# Altium footprint library con-lsta.PCBLIB: 47 footprints (part 1 of 3)
Each footprint in its own frame and in the unit in brackets; x right, y up, seen from the top. Pads: shape width x height; smd on the part's side, far side on the other; paste and mask are expansions set on the pad; w line width, h text height; cw(c..) or ccw(c..) is an arc to the next point about the centre after c.
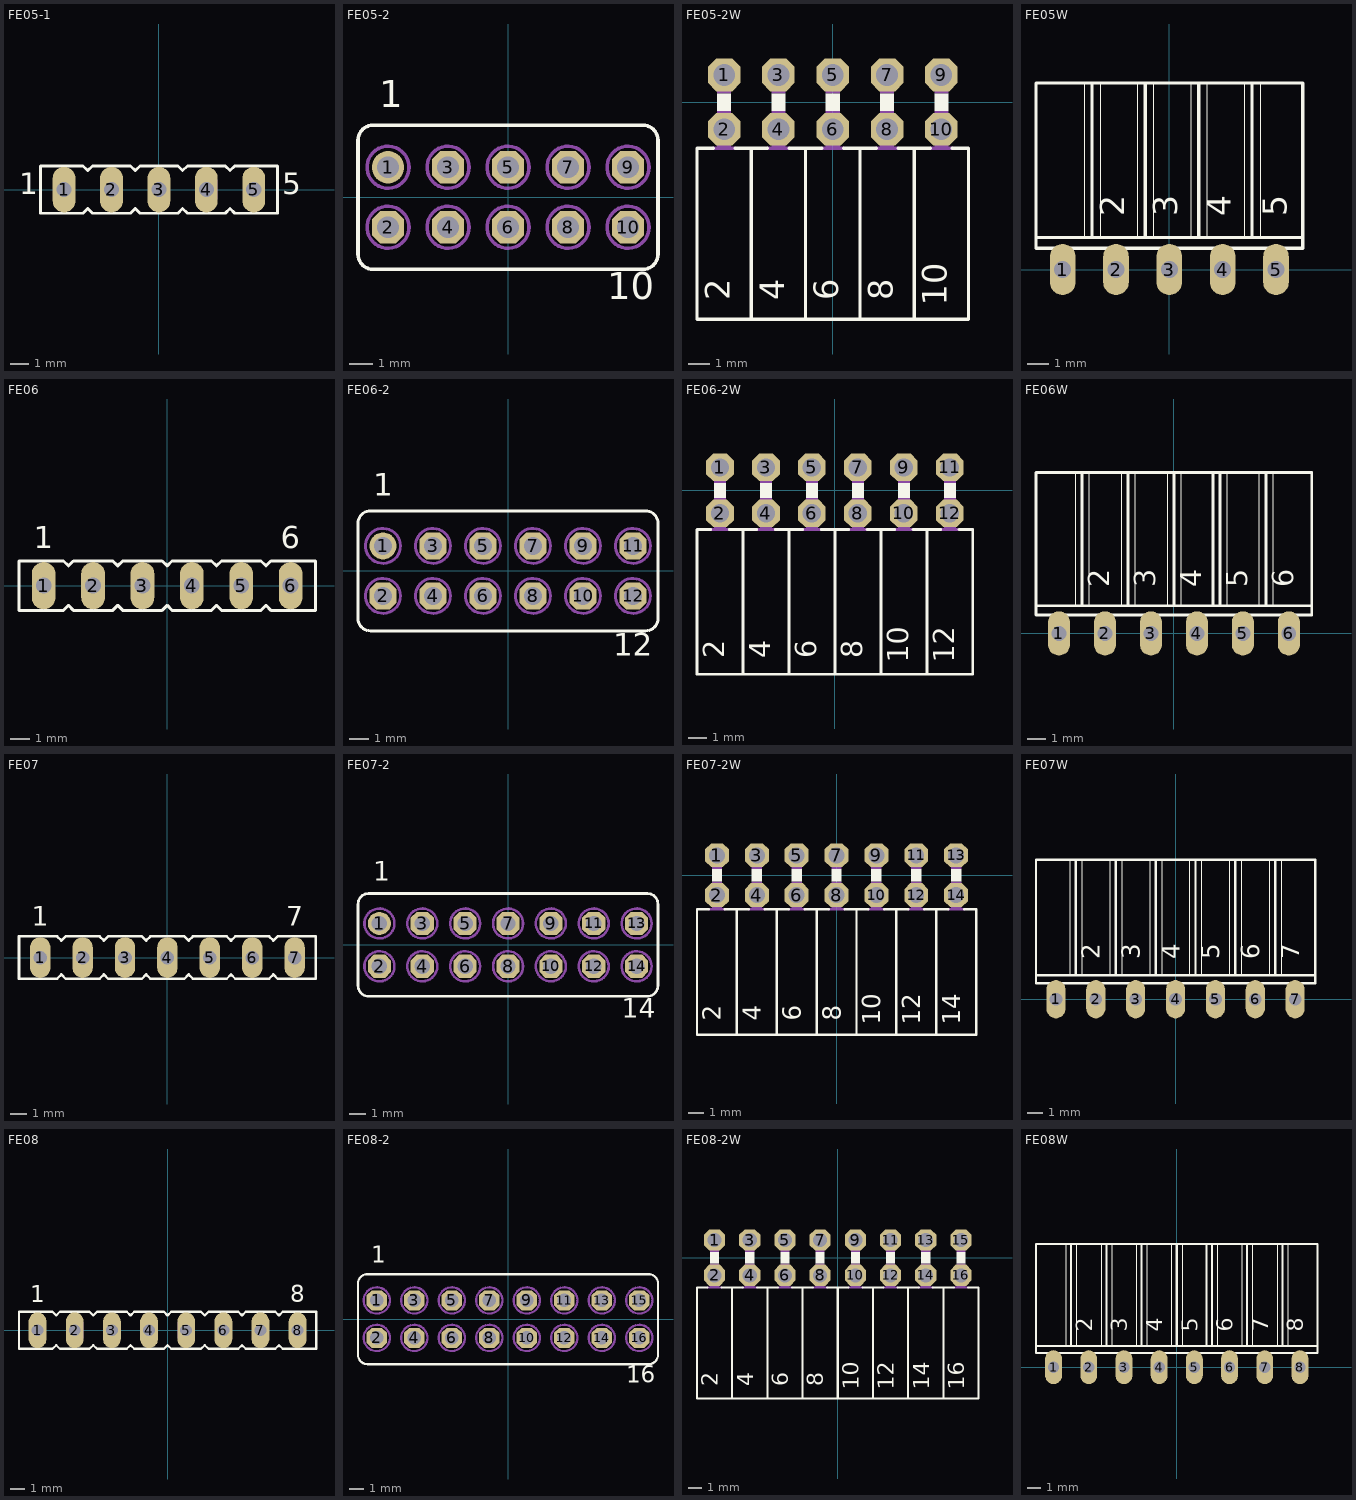
[diagram p0: the footprints below, top view; thin cyan lines are the x and y axes]

## FE05-1 [mil]
pads (5):
  oval 48x96 hole 32: 1(-200,0) 2(-100,0) 3(0,0) 4(100,0) 5(200,0)
Top Overlay:
  lines w6: -250,-50 -250,50 -160,50 -150,40 -140,50 -60,50 -50,40 -40,50 40,50 50,40 60,50 140,50 150,40 160,50 250,50 250,-50 160,-50 150,-40 140,-50 60,-50 50,-40 40,-50 -40,-50 -50,-40 -60,-50 -140,-50 -150,-40 -160,-50 -250,-50
  text "1" at -295,-25 h77.5
  text "5" at 260,-25 h77.5
Mechanical 16:
  rectangle: -205,10 -195,30
  rectangle: -205,-30 -195,-10
  rectangle: -105,10 -95,30
  rectangle: -105,-30 -95,-10
  rectangle: -5,10 5,30
  rectangle: -5,-30 5,-10
  rectangle: 95,10 105,30
  rectangle: 95,-30 105,-10
  rectangle: 195,10 205,30
  rectangle: 195,-30 205,-10
  lines w6: -220,-20 -220,20 -210,20 -210,30 -190,30 -190,20 -180,20 -180,-20 -190,-20 -190,-30 -210,-30 -210,-20 -220,-20 ; -120,-20 -120,20 -110,20 -110,30 -90,30 -90,20 -80,20 -80,-20 -90,-20 -90,-30 -110,-30 -110,-20 -120,-20 ; -20,-20 -20,20 -10,20 -10,30 10,30 10,20 20,20 20,-20 10,-20 10,-30 -10,-30 -10,-20 -20,-20 ; 80,-20 80,20 90,20 90,30 110,30 110,20 120,20 120,-20 110,-20 110,-30 90,-30 90,-20 80,-20 ; 180,-20 180,20 190,20 190,30 210,30 210,20 220,20 220,-20 210,-20 210,-30 190,-30 190,-20 180,-20

## FE05-2 [mil]
pads (10):
  round 54 hole 36: 1(-200,50)
  oct 54x54 hole 36: 2(-200,-50) 3(-100,50) 4(-100,-50) 5(0,50) 6(0,-50) 7(100,50) 8(100,-50) 9(200,50) 10(200,-50)
Top Overlay:
  lines w6: -250,-95 -250,95 cw(c-225,95) -225,120 225,120 cw(c225,95) 250,95 250,-95 cw(c225,-95) 225,-120 -225,-120 cw(c-225,-95) -250,-95
  text "1" at -215,135 h77.5
  text "10" at 165,-185 h77.5
Mechanical 16:
  circle w16: c-200,-50 r5
  circle w16: c-200,50 r5
  circle w16: c-100,-50 r5
  circle w16: c-100,50 r5
  circle w16: c0,-50 r5
  circle w16: c0,50 r5
  circle w16: c100,-50 r5
  circle w16: c100,50 r5
  circle w16: c200,-50 r5
  circle w16: c200,50 r5
  circle w6: c-200,-50 r35
  circle w6: c-200,50 r35
  circle w6: c-100,50 r35
  circle w6: c0,50 r35
  circle w6: c100,50 r35
  circle w6: c200,50 r35
  circle w6: c-100,-50 r35
  circle w6: c0,-50 r35
  circle w6: c100,-50 r35
  circle w6: c200,-50 r35

## FE05-2W [mil]
pads (10):
  oct 60x60 hole 40: 1(-200,50) 2(-200,-50) 3(-100,50) 4(-100,-50) 5(0,50) 6(0,-50) 7(100,50) 8(100,-50) 9(200,50) 10(200,-50)
Top Overlay:
  rectangle: 187,-16 213,16
  rectangle: 87,-16 113,16
  rectangle: -13,-16 13,16
  rectangle: -113,-16 -87,16
  rectangle: -213,-16 -187,16
  lines w6: -220,-85 -250,-85 -250,-400 -150,-400 ; -180,-85 -150,-85 ; -120,-85 -150,-85 ; -80,-85 -50,-85 ; -20,-85 -50,-85 ; 20,-85 50,-85 ; 80,-85 50,-85 ; 120,-85 150,-85 ; 180,-85 150,-85 ; 220,-85 250,-85 250,-400 150,-400 ; -150,-400 -150,-85 ; -150,-400 -50,-400 ; -50,-400 -50,-85 ; -50,-400 50,-400 ; 50,-400 50,-85 ; 50,-400 150,-400 ; 150,-400 150,-85
  text "10" at 225,-375 h77.5
  text "8" at 125,-365 h77.5
  text "6" at 25,-365 h77.5
  text "4" at -75,-365 h77.5
  text "2" at -175,-365 h77.5
Mechanical 16:
  rectangle: 187,-84 213,-16
  rectangle: 87,-84 113,-16
  rectangle: 187,16 213,62
  rectangle: 87,16 113,62
  rectangle: -13,-84 13,-16
  rectangle: -113,-84 -87,-16
  rectangle: -213,-84 -187,-16
  rectangle: -13,16 13,62
  rectangle: -113,16 -87,62
  rectangle: -213,16 -187,62
  lines w6: -220,-85 -180,-85 ; -120,-85 -80,-85 ; -20,-85 20,-85 ; 80,-85 120,-85 ; 180,-85 220,-85

## FE05W [mil]
pads (5):
  oval 48x96 hole 32: 1(-200,0) 2(-100,0) 3(0,0) 4(100,0) 5(200,0)
Top Overlay:
  lines w2: -160,60 -160,350 ; -130,60 -130,350 ; -60,60 -60,350 ; -30,60 -30,350 ; 40,60 40,350 ; 70,60 70,350 ; 140,60 140,350 ; 170,60 170,350
  lines w6: -250,60 -250,40 250,40 250,60 ; -250,60 -250,350 -160,350 -145,350 ; -250,60 -160,60 -145,60 ; -145,60 -130,60 -60,60 -45,60 ; -145,60 -145,350 ; -145,350 -130,350 -60,350 -45,350 ; -45,60 -30,60 40,60 55,60 ; -45,60 -45,350 ; -45,350 -30,350 40,350 55,350 ; 55,60 70,60 140,60 155,60 ; 55,60 55,350 ; 55,350 70,350 140,350 155,350 ; 155,60 170,60 250,60 ; 155,60 155,350 ; 155,350 170,350 250,350 250,60
  text "2" at -70,100 h77.5
  text "5" at 235,100 h77.5
  text "3" at 30,100 h77.5
  text "4" at 130,100 h77.5
Mechanical 16:
  rectangle: -210,0 -190,40
  rectangle: -110,0 -90,40
  rectangle: -10,0 10,40
  rectangle: 90,0 110,40
  rectangle: 190,0 210,40

## FE06 [mil]
pads (6):
  oval 48x96 hole 32: 1(-250,0) 2(-150,0) 3(-50,0) 4(50,0) 5(150,0) 6(250,0)
Top Overlay:
  lines w6: -300,-50 -300,50 -210,50 -200,40 -190,50 -110,50 -100,40 -90,50 -10,50 0,40 10,50 90,50 100,40 110,50 190,50 200,40 210,50 300,50 300,-50 210,-50 200,-40 190,-50 110,-50 100,-40 90,-50 10,-50 0,-40 -10,-50 -90,-50 -100,-40 -110,-50 -190,-50 -200,-40 -210,-50 -300,-50
  text "1" at -270,60 h77.5
  text "6" at 230,60 h77.5
Mechanical 16:
  rectangle: -255,10 -245,30
  rectangle: -255,-30 -245,-10
  rectangle: -155,10 -145,30
  rectangle: -155,-30 -145,-10
  rectangle: -55,10 -45,30
  rectangle: -55,-30 -45,-10
  rectangle: 45,10 55,30
  rectangle: 45,-30 55,-10
  rectangle: 145,10 155,30
  rectangle: 145,-30 155,-10
  rectangle: 245,10 255,30
  rectangle: 245,-30 255,-10
  lines w6: -270,-20 -270,20 -260,20 -260,30 -240,30 -240,20 -230,20 -230,-20 -240,-20 -240,-30 -260,-30 -260,-20 -270,-20 ; -170,-20 -170,20 -160,20 -160,30 -140,30 -140,20 -130,20 -130,-20 -140,-20 -140,-30 -160,-30 -160,-20 -170,-20 ; -70,-20 -70,20 -60,20 -60,30 -40,30 -40,20 -30,20 -30,-20 -40,-20 -40,-30 -60,-30 -60,-20 -70,-20 ; 30,-20 30,20 40,20 40,30 60,30 60,20 70,20 70,-20 60,-20 60,-30 40,-30 40,-20 30,-20 ; 130,-20 130,20 140,20 140,30 160,30 160,20 170,20 170,-20 160,-20 160,-30 140,-30 140,-20 130,-20 ; 230,-20 230,20 240,20 240,30 260,30 260,20 270,20 270,-20 260,-20 260,-30 240,-30 240,-20 230,-20

## FE06-2 [mil]
pads (12):
  round 54 hole 36: 1(-250,50)
  oct 54x54 hole 36: 2(-250,-50) 3(-150,50) 4(-150,-50) 5(-50,50) 6(-50,-50) 7(50,50) 8(50,-50) 9(150,50) 10(150,-50) 11(250,50) 12(250,-50)
Top Overlay:
  lines w6: -300,-95 -300,95 cw(c-275,95) -275,120 275,120 cw(c275,95) 300,95 300,-95 cw(c275,-95) 275,-120 -275,-120 cw(c-275,-95) -300,-95
  text "1" at -270,135 h77.5
  text "12" at 210,-185 h77.5
Mechanical 16:
  circle w16: c-250,-50 r5
  circle w16: c-250,50 r5
  circle w16: c-150,-50 r5
  circle w16: c-150,50 r5
  circle w16: c-50,-50 r5
  circle w16: c-50,50 r5
  circle w16: c50,-50 r5
  circle w16: c50,50 r5
  circle w16: c150,-50 r5
  circle w16: c150,50 r5
  circle w6: c-250,-50 r35
  circle w6: c-250,50 r35
  circle w6: c-150,50 r35
  circle w6: c-50,50 r35
  circle w6: c50,50 r35
  circle w6: c150,50 r35
  circle w6: c-150,-50 r35
  circle w6: c-50,-50 r35
  circle w6: c50,-50 r35
  circle w6: c150,-50 r35
  circle w16: c250,-50 r5
  circle w16: c250,50 r5
  circle w6: c250,-50 r35
  circle w6: c250,50 r35

## FE06-2W [mil]
pads (12):
  oct 60x60 hole 40: 1(-250,50) 2(-250,-50) 3(-150,50) 4(-150,-50) 5(-50,50) 6(-50,-50) 7(50,50) 8(50,-50) 9(150,50) 10(150,-50) 11(250,50) 12(250,-50)
Top Overlay:
  rectangle: 237,-16 263,16
  rectangle: 137,-16 163,16
  rectangle: 37,-16 63,16
  rectangle: -63,-16 -37,16
  rectangle: -163,-16 -137,16
  rectangle: -263,-16 -237,16
  lines w6: -270,-85 -300,-85 -300,-400 -200,-400 ; -230,-85 -200,-85 ; -170,-85 -200,-85 ; -130,-85 -100,-85 ; -70,-85 -100,-85 ; -30,-85 0,-85 ; 30,-85 0,-85 ; 70,-85 100,-85 ; 130,-85 100,-85 ; 170,-85 200,-85 ; 230,-85 200,-85 ; 270,-85 300,-85 300,-400 200,-400 ; -200,-400 -200,-85 ; -200,-400 -100,-400 ; -100,-400 -100,-85 ; -100,-400 0,-400 ; 0,-400 0,-85 ; 0,-400 100,-400 ; 100,-400 100,-85 ; 100,-400 200,-400 ; 200,-400 200,-85
  text "12" at 275,-375 h77.5
  text "10" at 175,-375 h77.5
  text "8" at 75,-365 h77.5
  text "6" at -25,-365 h77.5
  text "4" at -125,-365 h77.5
  text "2" at -225,-365 h77.5
Mechanical 16:
  rectangle: 237,16 263,62
  rectangle: 237,-84 263,-16
  rectangle: 137,-84 163,-16
  rectangle: 37,-84 63,-16
  rectangle: 137,16 163,62
  rectangle: 37,16 63,62
  rectangle: -63,-84 -37,-16
  rectangle: -163,-84 -137,-16
  rectangle: -263,-84 -237,-16
  rectangle: -63,16 -37,62
  rectangle: -163,16 -137,62
  rectangle: -263,16 -237,62
  lines w6: -270,-85 -230,-85 ; -170,-85 -130,-85 ; -70,-85 -30,-85 ; 30,-85 70,-85 ; 130,-85 170,-85 ; 230,-85 270,-85

## FE06W [mil]
pads (6):
  oval 48x96 hole 32: 1(-250,0) 2(-150,0) 3(-50,0) 4(50,0) 5(150,0) 6(250,0)
Top Overlay:
  lines w2: -215,60 -215,350 ; -185,60 -185,350 ; -115,60 -115,350 ; -85,60 -85,350 ; -15,60 -15,350 ; 15,60 15,350 ; 115,60 115,350 ; 185,60 185,350 ; 215,60 215,350
  lines w6: -300,60 -300,40 300,40 300,60 ; -300,60 -300,350 -215,350 -200,350 ; -300,60 -215,60 -200,60 ; -200,60 -185,60 -115,60 -100,60 ; -200,60 -200,350 ; -200,350 -185,350 -115,350 -100,350 ; -100,60 -85,60 -15,60 0,60 ; -100,60 -100,350 ; -100,350 -85,350 -15,350 0,350 ; 0,60 15,60 85,60 ; 0,60 0,350 ; 0,350 15,350 85,350 ; 85,60 100,60 ; 85,60 85,350 ; 85,350 100,350 ; 100,60 115,60 185,60 200,60 ; 100,60 100,350 ; 100,350 115,350 185,350 200,350 ; 200,60 200,350 ; 200,60 215,60 300,60 ; 200,350 215,350 300,350 300,60
  text "2" at -125,100 h77.5
  text "6" at 275,100 h77.5
  text "3" at -25,100 h77.5
  text "4" at 75,100 h77.5
  text "5" at 175,100 h77.5
Mechanical 16:
  rectangle: -260,0 -240,40
  rectangle: -160,0 -140,40
  rectangle: -60,0 -40,40
  rectangle: 40,0 60,40
  rectangle: 140,0 160,40
  rectangle: 240,0 260,40

## FE07 [mil]
pads (7):
  oval 48x96 hole 32: 1(-300,0) 2(-200,0) 3(-100,0) 4(0,0) 5(100,0) 6(200,0) 7(300,0)
Top Overlay:
  lines w6: -350,-50 -350,50 -260,50 -250,40 -240,50 -160,50 -150,40 -140,50 -60,50 -50,40 -40,50 40,50 50,40 60,50 140,50 150,40 160,50 240,50 250,40 260,50 350,50 350,-50 260,-50 250,-40 240,-50 160,-50 150,-40 140,-50 60,-50 50,-40 40,-50 -40,-50 -50,-40 -60,-50 -140,-50 -150,-40 -160,-50 -240,-50 -250,-40 -260,-50 -350,-50
  text "1" at -320,60 h77.5
  text "7" at 280,60 h77.5
Mechanical 16:
  rectangle: -305,10 -295,30
  rectangle: -305,-30 -295,-10
  rectangle: -205,10 -195,30
  rectangle: -205,-30 -195,-10
  rectangle: -105,10 -95,30
  rectangle: -105,-30 -95,-10
  rectangle: -5,10 5,30
  rectangle: -5,-30 5,-10
  rectangle: 95,10 105,30
  rectangle: 95,-30 105,-10
  rectangle: 195,10 205,30
  rectangle: 195,-30 205,-10
  rectangle: 295,10 305,30
  rectangle: 295,-30 305,-10
  lines w6: -320,-20 -320,20 -310,20 -310,30 -290,30 -290,20 -280,20 -280,-20 -290,-20 -290,-30 -310,-30 -310,-20 -320,-20 ; -220,-20 -220,20 -210,20 -210,30 -190,30 -190,20 -180,20 -180,-20 -190,-20 -190,-30 -210,-30 -210,-20 -220,-20 ; -120,-20 -120,20 -110,20 -110,30 -90,30 -90,20 -80,20 -80,-20 -90,-20 -90,-30 -110,-30 -110,-20 -120,-20 ; -20,-20 -20,20 -10,20 -10,30 10,30 10,20 20,20 20,-20 10,-20 10,-30 -10,-30 -10,-20 -20,-20 ; 80,-20 80,20 90,20 90,30 110,30 110,20 120,20 120,-20 110,-20 110,-30 90,-30 90,-20 80,-20 ; 180,-20 180,20 190,20 190,30 210,30 210,20 220,20 220,-20 210,-20 210,-30 190,-30 190,-20 180,-20 ; 280,-20 280,20 290,20 290,30 310,30 310,20 320,20 320,-20 310,-20 310,-30 290,-30 290,-20 280,-20

## FE07-2 [mil]
pads (14):
  round 54 hole 36: 1(-300,50)
  oct 54x54 hole 36: 2(-300,-50) 3(-200,50) 4(-200,-50) 5(-100,50) 6(-100,-50) 7(0,50) 8(0,-50) 9(100,50) 10(100,-50) 11(200,50) 12(200,-50) 13(300,50) 14(300,-50)
Top Overlay:
  lines w6: -350,-95 -350,95 cw(c-325,95) -325,120 325,120 cw(c325,95) 350,95 350,-95 cw(c325,-95) 325,-120 -325,-120 cw(c-325,-95) -350,-95
  text "1" at -315,135 h77.5
  text "14" at 265,-185 h77.5
Mechanical 16:
  circle w16: c-300,-50 r5
  circle w16: c-300,50 r5
  circle w16: c-200,-50 r5
  circle w16: c-200,50 r5
  circle w16: c-100,-50 r5
  circle w16: c-100,50 r5
  circle w16: c0,-50 r5
  circle w16: c0,50 r5
  circle w16: c100,-50 r5
  circle w16: c100,50 r5
  circle w6: c-300,-50 r35
  circle w6: c-300,50 r35
  circle w6: c-200,50 r35
  circle w6: c-100,50 r35
  circle w6: c0,50 r35
  circle w6: c100,50 r35
  circle w6: c-200,-50 r35
  circle w6: c-100,-50 r35
  circle w6: c0,-50 r35
  circle w6: c100,-50 r35
  circle w16: c200,-50 r5
  circle w16: c300,-50 r5
  circle w16: c300,50 r5
  circle w16: c200,50 r5
  circle w6: c200,50 r35
  circle w6: c200,-50 r35
  circle w6: c300,-50 r35
  circle w6: c300,50 r35

## FE07-2W [mil]
pads (14):
  oct 60x60 hole 40: 1(-300,50) 2(-300,-50) 3(-200,50) 4(-200,-50) 5(-100,50) 6(-100,-50) 7(0,50) 8(0,-50) 9(100,50) 10(100,-50) 11(200,50) 12(200,-50) 13(300,50) 14(300,-50)
Top Overlay:
  rectangle: 287,-16 313,16
  rectangle: 187,-16 213,16
  rectangle: 87,-16 113,16
  rectangle: -13,-16 13,16
  rectangle: -113,-16 -87,16
  rectangle: -213,-16 -187,16
  rectangle: -313,-16 -287,16
  lines w6: -320,-85 -350,-85 -350,-400 -250,-400 ; -280,-85 -250,-85 ; -220,-85 -250,-85 ; -180,-85 -150,-85 ; -120,-85 -150,-85 ; -80,-85 -50,-85 ; -20,-85 -50,-85 ; 20,-85 50,-85 ; 80,-85 50,-85 ; 120,-85 150,-85 ; 180,-85 150,-85 ; 220,-85 250,-85 ; 280,-85 250,-85 ; 320,-85 350,-85 350,-400 250,-400 ; -250,-400 -250,-85 ; -250,-400 -150,-400 ; -150,-400 -150,-85 ; -150,-400 -50,-400 ; -50,-400 -50,-85 ; -50,-400 50,-400 ; 50,-400 50,-85 ; 50,-400 150,-400 ; 150,-400 150,-85 ; 150,-400 250,-400 ; 250,-400 250,-85
  text "14" at 325,-375 h77.5
  text "12" at 225,-375 h77.5
  text "10" at 125,-375 h77.5
  text "8" at 25,-365 h77.5
  text "6" at -75,-365 h77.5
  text "4" at -175,-365 h77.5
  text "2" at -275,-365 h77.5
Mechanical 16:
  rectangle: 287,16 313,62
  rectangle: 187,16 213,62
  rectangle: 287,-84 313,-16
  rectangle: 187,-84 213,-16
  rectangle: 87,-84 113,-16
  rectangle: -13,-84 13,-16
  rectangle: 87,16 113,62
  rectangle: -13,16 13,62
  rectangle: -113,-84 -87,-16
  rectangle: -213,-84 -187,-16
  rectangle: -313,-84 -287,-16
  rectangle: -113,16 -87,62
  rectangle: -213,16 -187,62
  rectangle: -313,16 -287,62
  lines w6: -320,-85 -280,-85 ; -220,-85 -180,-85 ; -120,-85 -80,-85 ; -20,-85 20,-85 ; 80,-85 120,-85 ; 180,-85 220,-85 ; 280,-85 320,-85

## FE07W [mil]
pads (7):
  oval 48x96 hole 32: 1(-300,0) 2(-200,0) 3(-100,0) 4(0,0) 5(100,0) 6(200,0) 7(300,0)
Top Overlay:
  lines w2: -265,60 -265,350 ; -235,60 -235,350 ; -165,60 -165,350 ; -135,60 -135,350 ; -65,60 -65,350 ; -35,60 -35,350 ; 35,60 35,350 ; 65,60 65,350 ; 135,60 135,350 ; 165,60 165,350 ; 235,60 235,350 ; 265,60 265,350
  lines w6: -350,60 -350,40 350,40 350,60 ; -350,60 -350,350 -265,350 -250,350 ; -350,60 -265,60 -250,60 ; -250,60 -235,60 -165,60 -150,60 ; -250,60 -250,350 ; -250,350 -235,350 -165,350 -150,350 ; -150,60 -135,60 -65,60 -50,60 ; -150,60 -150,350 ; -150,350 -135,350 -65,350 -50,350 ; -50,60 -35,60 35,60 50,60 ; -50,60 -50,350 ; -50,350 -35,350 35,350 50,350 ; 50,60 65,60 135,60 150,60 ; 50,60 50,350 ; 50,350 65,350 135,350 150,350 ; 150,60 150,350 ; 150,60 165,60 235,60 250,60 ; 150,350 165,350 235,350 250,350 ; 250,60 250,350 ; 250,60 265,60 350,60 ; 250,350 265,350 350,350 350,60
  text "2" at -175,100 h77.5
  text "7" at 325,100 h77.5
  text "3" at -75,100 h77.5
  text "4" at 25,100 h77.5
  text "5" at 125,100 h77.5
  text "6" at 225,100 h77.5
Mechanical 16:
  rectangle: -310,0 -290,40
  rectangle: -210,0 -190,40
  rectangle: -110,0 -90,40
  rectangle: -10,0 10,40
  rectangle: 90,0 110,40
  rectangle: 190,0 210,40
  rectangle: 290,0 310,40

## FE08 [mil]
pads (8):
  oval 48x96 hole 32: 1(-350,0) 2(-250,0) 3(-150,0) 4(-50,0) 5(50,0) 6(150,0) 7(250,0) 8(350,0)
Top Overlay:
  lines w6: -400,-50 -400,50 -310,50 -300,40 -290,50 -210,50 -200,40 -190,50 -110,50 -100,40 -90,50 -10,50 0,40 10,50 90,50 100,40 110,50 190,50 200,40 210,50 290,50 300,40 310,50 400,50 400,-50 310,-50 300,-40 290,-50 210,-50 200,-40 190,-50 110,-50 100,-40 90,-50 10,-50 0,-40 -10,-50 -90,-50 -100,-40 -110,-50 -190,-50 -200,-40 -210,-50 -290,-50 -300,-40 -310,-50 -400,-50
  text "1" at -370,60 h77.5
  text "8" at 330,60 h77.5
Mechanical 16:
  rectangle: -355,10 -345,30
  rectangle: -355,-30 -345,-10
  rectangle: -255,10 -245,30
  rectangle: -255,-30 -245,-10
  rectangle: -155,10 -145,30
  rectangle: -155,-30 -145,-10
  rectangle: -55,10 -45,30
  rectangle: -55,-30 -45,-10
  rectangle: 45,10 55,30
  rectangle: 45,-30 55,-10
  rectangle: 145,10 155,30
  rectangle: 145,-30 155,-10
  rectangle: 245,10 255,30
  rectangle: 245,-30 255,-10
  rectangle: 345,10 355,30
  rectangle: 345,-30 355,-10
  lines w6: -370,-20 -370,20 -360,20 -360,30 -340,30 -340,20 -330,20 -330,-20 -340,-20 -340,-30 -360,-30 -360,-20 -370,-20 ; -270,-20 -270,20 -260,20 -260,30 -240,30 -240,20 -230,20 -230,-20 -240,-20 -240,-30 -260,-30 -260,-20 -270,-20 ; -170,-20 -170,20 -160,20 -160,30 -140,30 -140,20 -130,20 -130,-20 -140,-20 -140,-30 -160,-30 -160,-20 -170,-20 ; -70,-20 -70,20 -60,20 -60,30 -40,30 -40,20 -30,20 -30,-20 -40,-20 -40,-30 -60,-30 -60,-20 -70,-20 ; 30,-20 30,20 40,20 40,30 60,30 60,20 70,20 70,-20 60,-20 60,-30 40,-30 40,-20 30,-20 ; 130,-20 130,20 140,20 140,30 160,30 160,20 170,20 170,-20 160,-20 160,-30 140,-30 140,-20 130,-20 ; 230,-20 230,20 240,20 240,30 260,30 260,20 270,20 270,-20 260,-20 260,-30 240,-30 240,-20 230,-20 ; 330,-20 330,20 340,20 340,30 360,30 360,20 370,20 370,-20 360,-20 360,-30 340,-30 340,-20 330,-20

## FE08-2 [mil]
pads (16):
  oct 54x54 hole 36: 1(-350,50) 2(-350,-50) 3(-250,50) 4(-250,-50) 5(-150,50) 6(-150,-50) 7(-50,50) 8(-50,-50) 9(50,50) 10(50,-50) 11(150,50) 12(150,-50) 13(250,50) 14(250,-50) 15(350,50) 16(350,-50)
Top Overlay:
  lines w6: -400,-95 -400,95 cw(c-375,95) -375,120 375,120 cw(c375,95) 400,95 400,-95 cw(c375,-95) 375,-120 -375,-120 cw(c-375,-95) -400,-95
  text "1" at -365,135 h77.5
  text "16" at 315,-185 h77.5
Mechanical 16:
  circle w16: c-350,-50 r5
  circle w16: c-350,50 r5
  circle w16: c-250,-50 r5
  circle w16: c-250,50 r5
  circle w16: c-150,-50 r5
  circle w16: c-150,50 r5
  circle w16: c-50,-50 r5
  circle w16: c-50,50 r5
  circle w16: c50,-50 r5
  circle w16: c50,50 r5
  circle w6: c-350,-50 r35
  circle w6: c-350,50 r35
  circle w6: c-250,50 r35
  circle w6: c-150,50 r35
  circle w6: c-50,50 r35
  circle w6: c50,50 r35
  circle w6: c-250,-50 r35
  circle w6: c-150,-50 r35
  circle w6: c-50,-50 r35
  circle w6: c50,-50 r35
  circle w16: c150,-50 r5
  circle w16: c150,50 r5
  circle w16: c250,-50 r5
  circle w16: c250,50 r5
  circle w16: c350,-50 r5
  circle w16: c350,50 r5
  circle w6: c150,-50 r35
  circle w6: c150,50 r35
  circle w6: c250,50 r35
  circle w6: c350,50 r35
  circle w6: c250,-50 r35
  circle w6: c350,-50 r35

## FE08-2W [mil]
pads (16):
  oct 60x60 hole 40: 1(-350,50) 2(-350,-50) 3(-250,50) 4(-250,-50) 5(-150,50) 6(-150,-50) 7(-50,50) 8(-50,-50) 9(50,50) 10(50,-50) 11(150,50) 12(150,-50) 13(250,50) 14(250,-50) 15(350,50) 16(350,-50)
Top Overlay:
  rectangle: 337,-16 363,16
  rectangle: 237,-16 263,16
  rectangle: 137,-16 163,16
  rectangle: 37,-16 63,16
  rectangle: -63,-16 -37,16
  rectangle: -163,-16 -137,16
  rectangle: -263,-16 -237,16
  rectangle: -363,-16 -337,16
  lines w6: -370,-85 -400,-85 -400,-400 -300,-400 ; -330,-85 -300,-85 ; -270,-85 -300,-85 ; -230,-85 -200,-85 ; -170,-85 -200,-85 ; -130,-85 -100,-85 ; -70,-85 -100,-85 ; -30,-85 0,-85 ; 30,-85 0,-85 ; 70,-85 100,-85 ; 130,-85 100,-85 ; 170,-85 200,-85 ; 230,-85 200,-85 ; 270,-85 300,-85 ; 330,-85 300,-85 ; 370,-85 400,-85 400,-400 300,-400 ; -300,-400 -300,-85 ; -300,-400 -200,-400 ; -200,-400 -200,-85 ; -200,-400 -100,-400 ; -100,-400 -100,-85 ; -100,-400 0,-400 ; 0,-400 0,-85 ; 0,-400 100,-400 ; 100,-400 100,-85 ; 100,-400 200,-400 ; 200,-400 200,-85 ; 200,-400 300,-400 ; 300,-400 300,-85
  text "16" at 375,-375 h77.5
  text "14" at 275,-375 h77.5
  text "12" at 175,-375 h77.5
  text "10" at 75,-375 h77.5
  text "8" at -25,-365 h77.5
  text "6" at -125,-365 h77.5
  text "4" at -225,-365 h77.5
  text "2" at -325,-365 h77.5
Mechanical 16:
  rectangle: 337,-84 363,-16
  rectangle: 337,16 363,62
  rectangle: 237,16 263,62
  rectangle: 137,16 163,62
  rectangle: 237,-84 263,-16
  rectangle: 137,-84 163,-16
  rectangle: 37,-84 63,-16
  rectangle: -63,-84 -37,-16
  rectangle: 37,16 63,62
  rectangle: -63,16 -37,62
  rectangle: -163,-84 -137,-16
  rectangle: -263,-84 -237,-16
  rectangle: -363,-84 -337,-16
  rectangle: -163,16 -137,62
  rectangle: -263,16 -237,62
  rectangle: -363,16 -337,62
  lines w6: -370,-85 -330,-85 ; -270,-85 -230,-85 ; -170,-85 -130,-85 ; -70,-85 -30,-85 ; 30,-85 70,-85 ; 130,-85 170,-85 ; 230,-85 270,-85 ; 330,-85 370,-85

## FE08W [mil]
pads (8):
  oval 48x96 hole 32: 1(-350,0) 2(-250,0) 3(-150,0) 4(-50,0) 5(50,0) 6(150,0) 7(250,0) 8(350,0)
Top Overlay:
  lines w2: -315,60 -315,350 ; -285,60 -285,350 ; -215,60 -215,350 ; -185,60 -185,350 ; -115,60 -115,350 ; -85,60 -85,350 ; -15,60 -15,350 ; 15,60 15,350 ; 115,60 115,350 ; 185,60 185,350 ; 215,60 215,350 ; 285,60 285,350 ; 315,60 315,350
  lines w6: -400,60 -400,40 400,40 400,60 ; -400,60 -400,350 -315,350 -300,350 ; -400,60 -315,60 -300,60 ; -300,60 -285,60 -215,60 -200,60 ; -300,60 -300,350 ; -300,350 -285,350 -215,350 -200,350 ; -200,60 -185,60 -115,60 -100,60 ; -200,60 -200,350 ; -200,350 -185,350 -115,350 -100,350 ; -100,60 -85,60 -15,60 0,60 ; -100,60 -100,350 ; -100,350 -85,350 -15,350 0,350 ; 0,60 15,60 85,60 ; 0,60 0,350 ; 0,350 15,350 85,350 ; 85,60 100,60 ; 85,60 85,350 ; 85,350 100,350 ; 100,60 100,350 ; 100,60 115,60 185,60 200,60 ; 100,350 115,350 185,350 200,350 ; 200,60 200,350 ; 200,60 215,60 285,60 300,60 ; 200,350 215,350 285,350 300,350 ; 300,60 300,350 ; 300,60 315,60 400,60 ; 300,350 315,350 400,350 400,60
  text "2" at -225,100 h77.5
  text "8" at 375,100 h77.5
  text "3" at -125,100 h77.5
  text "4" at -25,100 h77.5
  text "5" at 75,100 h77.5
  text "6" at 175,100 h77.5
  text "7" at 275,100 h77.5
Mechanical 16:
  rectangle: -360,0 -340,40
  rectangle: -260,0 -240,40
  rectangle: -160,0 -140,40
  rectangle: -60,0 -40,40
  rectangle: 40,0 60,40
  rectangle: 140,0 160,40
  rectangle: 240,0 260,40
  rectangle: 340,0 360,40